# Altium schematic symbol library RT314005.SchLib: 1 symbol
Pins are listed as number, name and electrical type; pins without a type are passive.

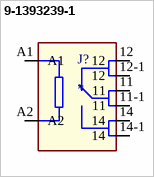
[diagram p0: symbol 9-1393239-1]

## 9-1393239-1
designator J?
RELAY GEN PURPOSE SPDT 16A 5V; MF: {'manufacturer': u'TE Connectivity'}; MP: 9-1393239-1; Package: None; Value: *; Price: None; Availability: Unavailable
footprint RELAY_9-1393239-1
pins: 11, 11-1 11, 12, 12-1 12, 14, 14-1 14, A1, A2